# Altium footprint library Control_Board_Library.PcbLib: 61 footprints (part 3 of 4)
Each footprint in its own frame and in the unit in brackets; x right, y up, seen from the top. Pads: shape width x height; smd on the part's side, far side on the other; paste and mask are expansions set on the pad; w line width, h text height; cw(c..) or ccw(c..) is an arc to the next point about the centre after c.
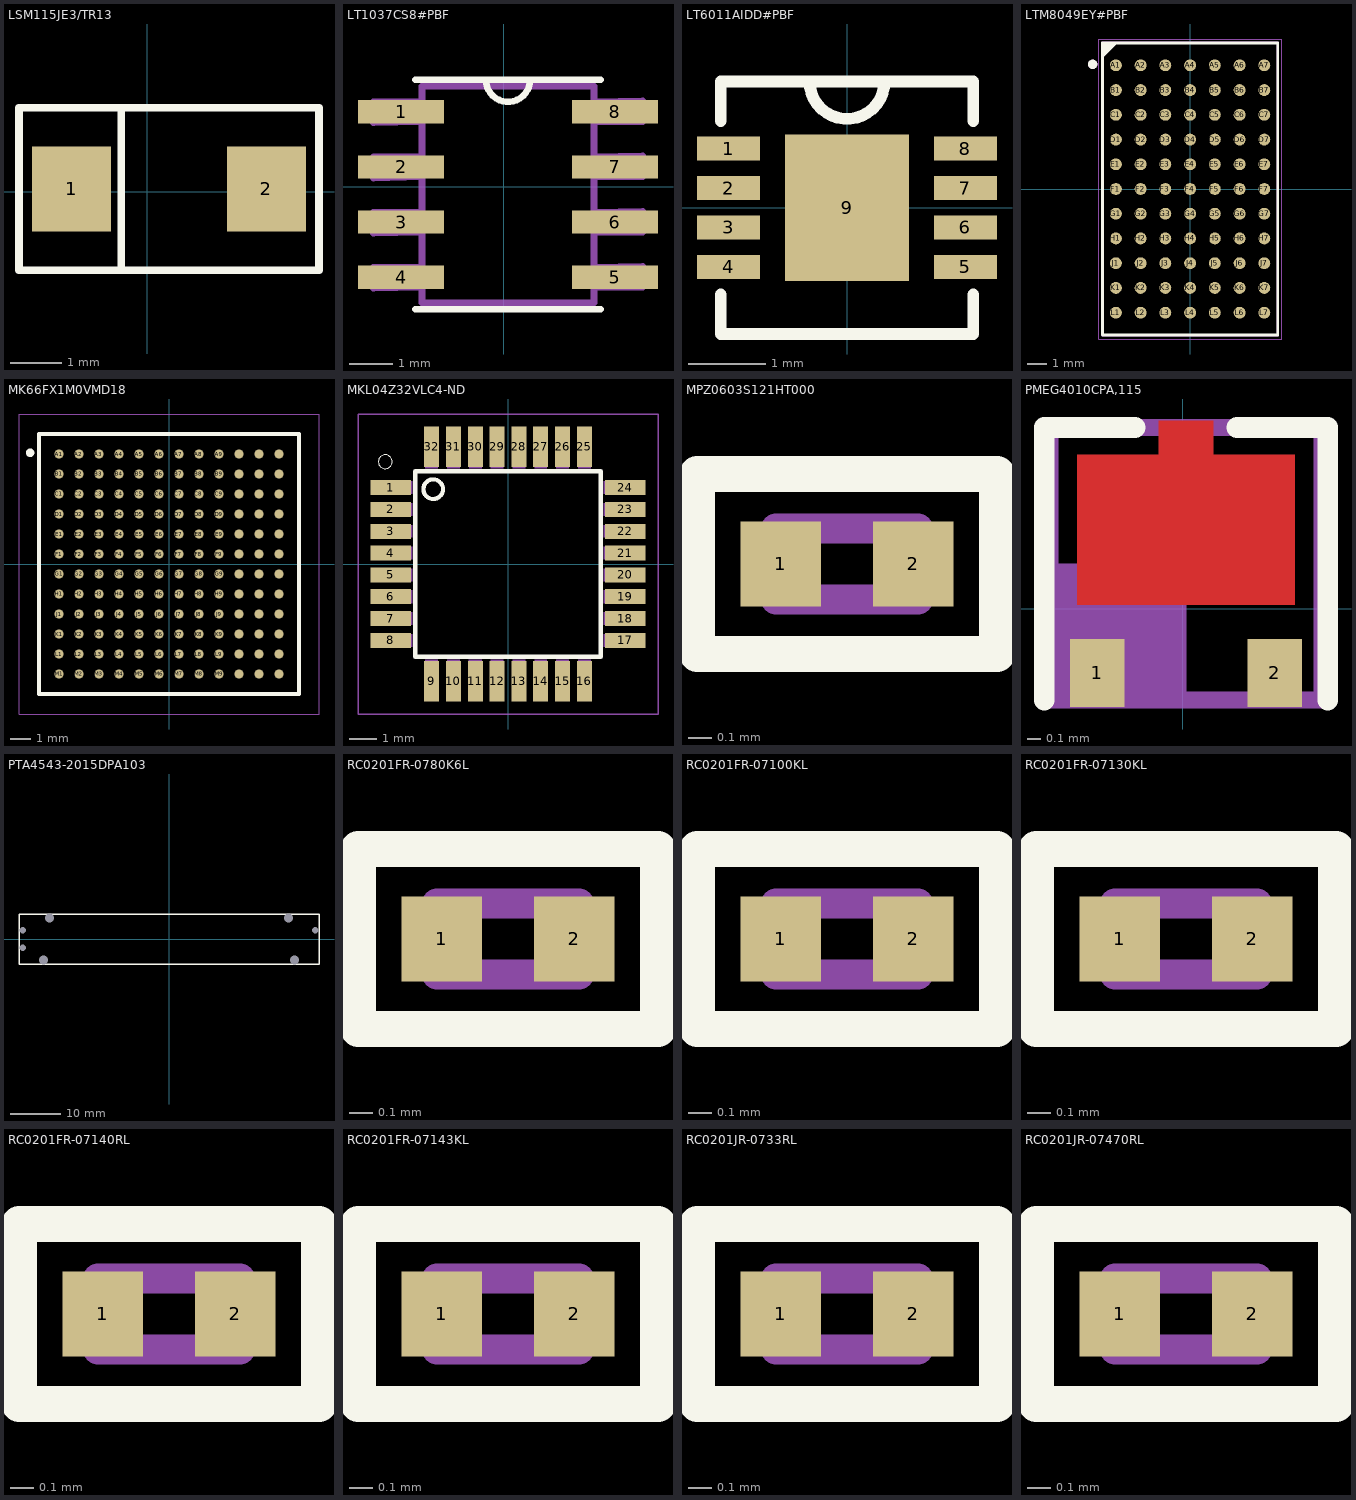
[diagram p2: the footprints below, top view; thin cyan lines are the x and y axes]

## LSM115JE3/TR13 [mm]
pads (2):
  rect 1.555x1.67 smd: 1(-1.483,0.051) 2(2.347,0.051)
Top Overlay:
  lines w0.152: -0.508,-1.549 -0.507,1.626 ; -2.518,-1.549 -2.518,1.651 3.382,1.651 3.382,-1.549 -2.518,-1.549
3D body "DO-214AC.STEP": height 2.36, standoff 0.08, extent -2.286,-1.346 3.201,1.448

## LT1037CS8#PBF [mil]
pads (8):
  rect 78x21 smd: 1(-93,68) 2(-93,18) 3(-93,-32) 4(-93,-82) 5(101,-82) 6(101,-32) 7(101,18) 8(101,68)
Top Overlay:
  lines w6: -80,-111 88,-111 ; -80,97 88,97 ; -16,97 ccw(c4,97) 24,97
Mechanical 1:
  lines w6: -118,-92 -74,-91 -74,-73 -118,-73 -118,-92 ; -118,-42 -74,-41 -74,-23 -118,-23 -118,-42 ; -118,8 -74,9 -74,27 -118,27 -118,8 ; -118,58 -74,59 -74,77 -118,77 -118,58 ; -74,-105 -74,91 -8,91 82,91 82,-105 -74,-105 ; 82,-91 126,-91 126,-72 82,-73 82,-91 ; 82,-41 126,-41 126,-22 82,-23 82,-41 ; 82,9 126,9 126,28 82,27 82,9 ; 82,59 126,59 126,78 82,77 82,59
3D body "8-SOIC.STEP": height 68.9, standoff 0, extent -118.1,-101.46 118.12,91.46

## LT6011AIDD#PBF [mil]
pads (9):
  rect 32x12 smd: 1(-60,30) 2(-60,10) 3(-60,-10) 4(-60,-30) 5(60,-30) 6(60,-10) 7(60,10) 8(60,30)
  rect 63x74 smd: 9(0,0)
Top Overlay:
  lines w6: -64,-44 -64,-64 64,-64 64,-44 ; -64,44 -64,64 -12,64 12,64 64,64 64,44 ; -19,64 ccw(c0,64) 19,64
Mechanical 1:
  lines w2: -64,-64 64,-64 ; -64,64 -12,64 12,64 64,64
3D body "8-LFCSP-WD.STEP": height 31.5, standoff 0, extent -59.45,-59.11 59.45,59

## LTM8049EY#PBF [mm]
pads (77):
  round 0.61 smd: A1(-3.81,6.35) A2(-2.54,6.35) A3(-1.27,6.35) A4(0,6.35) A5(1.27,6.35) A6(2.54,6.35) A7(3.81,6.35) B1(-3.81,5.08) B2(-2.54,5.08) B3(-1.27,5.08) B4(0,5.08) B5(1.27,5.08) B6(2.54,5.08) B7(3.81,5.08) C1(-3.81,3.81) C2(-2.54,3.81) C3(-1.27,3.81) C4(0,3.81) C5(1.27,3.81) C6(2.54,3.81) C7(3.81,3.81) D1(-3.81,2.54) D2(-2.54,2.54) D3(-1.27,2.54) D4(0,2.54) D5(1.27,2.54) D6(2.54,2.54) D7(3.81,2.54) E1(-3.81,1.27) E2(-2.54,1.27) E3(-1.27,1.27) E4(0,1.27) E5(1.27,1.27) E6(2.54,1.27) E7(3.81,1.27) F1(-3.81,0) F2(-2.54,0) F3(-1.27,0) F4(0,0) F5(1.27,0) F6(2.54,0) F7(3.81,0) G1(-3.81,-1.27) G2(-2.54,-1.27) G3(-1.27,-1.27) G4(0,-1.27) G5(1.27,-1.27) G6(2.54,-1.27) G7(3.81,-1.27) H1(-3.81,-2.54) H2(-2.54,-2.54) H3(-1.27,-2.54) H4(0,-2.54) H5(1.27,-2.54) H6(2.54,-2.54) H7(3.81,-2.54) J1(-3.81,-3.81) J2(-2.54,-3.81) J3(-1.27,-3.81) J4(0,-3.81) J5(1.27,-3.81) J6(2.54,-3.81) J7(3.81,-3.81) K1(-3.81,-5.08) K2(-2.54,-5.08) K3(-1.27,-5.08) K4(0,-5.08) K5(1.27,-5.08) K6(2.54,-5.08) K7(3.81,-5.08) L1(-3.81,-6.35) L2(-2.54,-6.35) L3(-1.27,-6.35) L4(0,-6.35) L5(1.27,-6.35) L6(2.54,-6.35) L7(3.81,-6.35)
Top Overlay:
  circle w0.24: c-5,6.4 r0.12
  lines w0.127: -4.5,6.9 -3.9,7.5 ; -4.5,6.9 -4.5,7 ; -4.5,6.9 -4.5,6.8 -3.8,7.5 -3.9,7.5 ; -4.5,7 -4,7.5 ; -4.5,7 -4.5,7.1 ; -4.5,7.1 -4.1,7.5 ; -4.5,7.1 -4.5,7.2 ; -4.5,7.2 -4.2,7.5 ; -4.5,7.2 -4.5,7.3 ; -4.5,7.3 -4.3,7.5 ; -4.5,7.3 -4.5,7.4 ; -4.5,7.4 -4.4,7.5 ; -4.5,7.4 -4.5,7.5 -4.4,7.5 ; -4.4,7.5 -4.3,7.5 ; -4.3,7.5 -4.2,7.5 ; -4.2,7.5 -4.1,7.5 ; -4.1,7.5 -4,7.5 ; -4,7.5 -3.9,7.5
  lines w0.152: -4.5,6.8 -4.5,-7.5 4.5,-7.5 4.5,7.5 -3.8,7.5
Mechanical 1:
  circle w0.24: c-5,6.4 r0.12
  lines w0.127: -4.5,-7.5 -4.5,7.5 4.5,7.5 4.5,-7.5 -4.5,-7.5
Mechanical 4:
  lines w0.05: -4.7,-7.7 -4.7,7.7 4.7,7.7 4.7,-7.7 -4.7,-7.7
3D body "LTM 8049.STEP": height 2.42, standoff 0, extent -4.428,-7.438 4.572,7.562

## MK66FX1M0VMD18 [mm]
pads (144):
  round 0.45 smd: A1(-5.5,5.5) A2(-4.5,5.5) A3(-3.5,5.5) A4(-2.5,5.5) A5(-1.5,5.5) A6(-0.5,5.5) A7(0.5,5.5) A8(1.5,5.5) A9(2.5,5.5) A10(3.5,5.5) A11(4.5,5.5) A12(5.5,5.5) B1(-5.5,4.5) B2(-4.5,4.5) B3(-3.5,4.5) B4(-2.5,4.5) B5(-1.5,4.5) B6(-0.5,4.5) B7(0.5,4.5) B8(1.5,4.5) B9(2.5,4.5) B10(3.5,4.5) B11(4.5,4.5) B12(5.5,4.5) C1(-5.5,3.5) C2(-4.5,3.5) C3(-3.5,3.5) C4(-2.5,3.5) C5(-1.5,3.5) C6(-0.5,3.5) C7(0.5,3.5) C8(1.5,3.5) C9(2.5,3.5) C10(3.5,3.5) C11(4.5,3.5) C12(5.5,3.5) D1(-5.5,2.5) D2(-4.5,2.5) D3(-3.5,2.5) D4(-2.5,2.5) D5(-1.5,2.5) D6(-0.5,2.5) D7(0.5,2.5) D8(1.5,2.5) D9(2.5,2.5) D10(3.5,2.5) D11(4.5,2.5) D12(5.5,2.5) E1(-5.5,1.5) E2(-4.5,1.5) E3(-3.5,1.5) E4(-2.5,1.5) E5(-1.5,1.5) E6(-0.5,1.5) E7(0.5,1.5) E8(1.5,1.5) E9(2.5,1.5) E10(3.5,1.5) E11(4.5,1.5) E12(5.5,1.5) F1(-5.5,0.5) F2(-4.5,0.5) F3(-3.5,0.5) F4(-2.5,0.5) F5(-1.5,0.5) F6(-0.5,0.5) F7(0.5,0.5) F8(1.5,0.5) F9(2.5,0.5) F10(3.5,0.5) F11(4.5,0.5) F12(5.5,0.5) G1(-5.5,-0.5) G2(-4.5,-0.5) G3(-3.5,-0.5) G4(-2.5,-0.5) G5(-1.5,-0.5) G6(-0.5,-0.5) G7(0.5,-0.5) G8(1.5,-0.5) G9(2.5,-0.5) G10(3.5,-0.5) G11(4.5,-0.5) G12(5.5,-0.5) H1(-5.5,-1.5) H2(-4.5,-1.5) H3(-3.5,-1.5) H4(-2.5,-1.5) H5(-1.5,-1.5) H6(-0.5,-1.5) H7(0.5,-1.5) H8(1.5,-1.5) H9(2.5,-1.5) H10(3.5,-1.5) H11(4.5,-1.5) H12(5.5,-1.5) J1(-5.5,-2.5) J2(-4.5,-2.5) J3(-3.5,-2.5) J4(-2.5,-2.5) J5(-1.5,-2.5) J6(-0.5,-2.5) J7(0.5,-2.5) J8(1.5,-2.5) J9(2.5,-2.5) J10(3.5,-2.5) J11(4.5,-2.5) J12(5.5,-2.5) K1(-5.5,-3.5) K2(-4.5,-3.5) K3(-3.5,-3.5) K4(-2.5,-3.5) K5(-1.5,-3.5) K6(-0.5,-3.5) K7(0.5,-3.5) K8(1.5,-3.5) K9(2.5,-3.5) K10(3.5,-3.5) K11(4.5,-3.5) K12(5.5,-3.5) L1(-5.5,-4.5) L2(-4.5,-4.5) L3(-3.5,-4.5) L4(-2.5,-4.5) L5(-1.5,-4.5) L6(-0.5,-4.5) L7(0.5,-4.5) L8(1.5,-4.5) L9(2.5,-4.5) L10(3.5,-4.5) L11(4.5,-4.5) L12(5.5,-4.5) M1(-5.5,-5.5) M2(-4.5,-5.5) M3(-3.5,-5.5) M4(-2.5,-5.5) M5(-1.5,-5.5) M6(-0.5,-5.5) M7(0.5,-5.5) M8(1.5,-5.5) M9(2.5,-5.5) M10(3.5,-5.5) M11(4.5,-5.5) M12(5.5,-5.5)
Top Overlay:
  circle w0.2: c-6.945,5.561 r0.11
  lines w0.2: -6.5,-6.5 -6.5,6.5 6.5,6.5 6.5,-6.5 -6.5,-6.5
Mechanical 4:
  lines w0.05: -7.5,-7.5 7.5,-7.5 7.5,7.5 -7.5,7.5 -7.5,-7.5
3D body "144-LBGA.STEP": height 1.1, standoff -0.25, extent -6.474,-6.474 6.526,6.526

## MKL04Z32VLC4-ND [mm]
pads (32):
  rect 1.5x0.55 smd: 1(-4.3,2.8) 2(-4.3,2) 3(-4.3,1.2) 4(-4.3,0.4) 5(-4.3,-0.4) 6(-4.3,-1.2) 7(-4.3,-2) 8(-4.3,-2.8) 17(4.3,-2.8) 18(4.3,-2) 19(4.3,-1.2) 20(4.3,-0.4) 21(4.3,0.4) 22(4.3,1.2) 23(4.3,2) 24(4.3,2.8)
  rect 0.55x1.5 smd: 9(-2.8,-4.3) 10(-2,-4.3) 11(-1.2,-4.3) 12(-0.4,-4.3) 13(0.4,-4.3) 14(1.2,-4.3) 15(2,-4.3) 16(2.8,-4.3) 25(2.8,4.3) 26(2,4.3) 27(1.2,4.3) 28(0.4,4.3) 29(-0.4,4.3) 30(-1.2,4.3) 31(-2,4.3) 32(-2.8,4.3)
Top Overlay:
  circle w0: c-4.5,3.75 r0.254
  circle w0.152: c-2.743,2.743 r0.359
  lines w0.152: -3.4,-3.4 -3.4,3.4 3.4,3.4 3.4,-3.4 -3.4,-3.4
Mechanical 1:
  region: -3.034,4.497 -2.571,4.497 -2.571,3.513 -3.034,3.513
  region: -2.233,4.497 -1.771,4.497 -1.771,3.513 -2.233,3.513
  region: -1.43,4.497 -0.971,4.497 -0.971,3.509 -1.43,3.509
  region: -0.631,4.497 -0.171,4.497 -0.171,3.518 -0.631,3.518
  region: 0.171,4.497 0.629,4.497 0.629,3.508 0.171,3.508
  region: 0.974,4.497 1.429,4.497 1.429,3.515 0.974,3.515
  region: 1.774,4.497 2.229,4.497 2.229,3.512 1.774,3.512
  region: 2.579,4.497 3.029,4.497 3.029,3.517 2.579,3.517
  region: 3.516,3.029 4.497,3.029 4.497,2.579 3.516,2.579
  region: 3.513,2.229 4.497,2.229 4.497,1.775 3.513,1.775
  region: 3.514,1.429 4.497,1.429 4.497,0.974 3.514,0.974
  region: 3.513,0.629 4.497,0.629 4.497,0.172 3.513,0.172
  region: 3.516,-0.171 4.497,-0.171 4.497,-0.63 3.516,-0.63
  region: 3.515,-0.971 4.497,-0.971 4.497,-1.432 3.515,-1.432
  region: 3.515,-1.771 4.497,-1.771 4.497,-2.235 3.515,-2.235
  region: 3.509,-2.571 4.497,-2.571 4.497,-3.031 3.509,-3.031
  region: 2.58,-3.506 3.029,-3.506 3.029,-4.511 2.58,-4.511
  region: 1.777,-3.506 2.229,-3.506 2.229,-4.51 1.777,-4.51
  region: 0.973,-3.506 1.429,-3.506 1.429,-4.505 0.973,-4.505
  region: 0.172,-3.506 0.629,-3.506 0.629,-4.505 0.172,-4.505
  region: -0.63,-3.506 -0.171,-3.506 -0.171,-4.505 -0.63,-4.505
  region: -1.432,-3.506 -0.971,-3.506 -0.971,-4.508 -1.432,-4.508
  region: -2.231,-3.506 -1.771,-3.506 -1.771,-4.502 -2.231,-4.502
  region: -3.038,-3.506 -2.571,-3.506 -2.571,-4.511 -3.038,-4.511
  region: -4.509,-2.571 -3.506,-2.571 -3.506,-3.037 -4.509,-3.037
  region: -4.503,-1.771 -3.506,-1.771 -3.506,-2.232 -4.503,-2.232
  region: -4.509,-0.971 -3.506,-0.971 -3.506,-1.432 -4.509,-1.432
  region: -4.506,-0.171 -3.506,-0.171 -3.506,-0.63 -4.506,-0.63
  region: -4.505,0.629 -3.506,0.629 -3.506,0.172 -4.505,0.172
  region: -4.508,1.429 -3.506,1.429 -3.506,0.974 -4.508,0.974
  region: -4.51,2.229 -3.506,2.229 -3.506,1.777 -4.51,1.777
  region: -4.499,3.029 -3.506,3.029 -3.506,2.573 -4.499,2.573
Mechanical 4:
  lines w0.05: -5.5,-5.5 -5.5,5.5 5.5,5.5 5.5,-5.5 -5.5,-5.5
3D body "MKL04.step": height 1.1, standoff 0, extent -4.509,-4.534 4.509,4.483

## MPZ0603S121HT000 [mm]
pads (2):
  rect 0.34x0.36 smd: 1(7.975,14.351) 2(8.535,14.351)
Top Overlay:
  lines w0.152: 7.62,13.97 8.89,13.97 8.89,14.732 7.62,14.732 7.62,13.97
Mechanical 1:
  region: 7.954,14.451 8.055,14.451 8.055,14.251 7.954,14.251
  region: 8.456,14.451 8.555,14.451 8.555,14.251 8.456,14.251
  lines w0.127: 7.955,14.201 8.555,14.201 8.555,14.501 7.955,14.501 7.955,14.201
3D body "Capacitor_0201.STEP": height 0.3, standoff 0, extent 7.955,14.201 8.555,14.501

## PMEG4010CPA,115 [mm]
pads (3):
  rect 0.4x0.5 smd: 1(-0.625,-0.47) 2(0.675,-0.47)
  rect 0x0 all layers, no hole: 3(0.025,1.205)
Top Layer:
  region: 0.825,0.03 -0.775,0.03 -0.775,1.13 -0.175,1.13 -0.175,1.38 0.225,1.38 0.225,1.13 0.825,1.13
Top Overlay:
  lines w0.152: -1.016,-0.67 -1.016,1.33 -0.35,1.33 ; 0.4,1.33 1.067,1.33 1.067,-0.67
Top Paste:
  region: 0.825,0.03 -0.775,0.03 -0.775,1.13 -0.175,1.13 -0.175,1.38 0.225,1.38 0.225,1.13 0.825,1.13
Top Solder:
  region: -0.375,-0.772 -0.876,-0.772 -0.876,-0.17 -0.375,-0.17
  region: 0.925,-0.772 0.426,-0.772 0.426,-0.17 0.925,-0.17
  region: 0.875,-0.02 -0.825,-0.02 -0.825,1.18 -0.225,1.18 -0.225,1.43 0.275,1.43 0.275,1.18 0.875,1.18
Mechanical 1:
  region: -0.976,0.33 0.025,0.33 0.025,-0.671 -0.976,-0.671
  lines w0.125: -0.975,-0.67 1.025,-0.67 1.025,1.23 1.025,1.33 -0.975,1.33 -0.975,-0.67
3D body: height 0.65, standoff 0, extent -0.975,-0.67 1.025,1.33

## PTA4543-2015DPA103 [mm]
pads (7):
  round 0.5 hole 1.3: 1(-29.25,1.75) 2(-29.25,-1.75) 3(29.25,1.75)
  round 0.5 hole 1.8: ""(-25.1,-4.2) ""(-23.9,4.2) ""(23.9,4.2) ""(25.1,-4.2)
Top Overlay:
  lines w0.254: -30,-5 30,-5 30,5 -30,5 -30,-5
3D body "69120.stp": height 21.7, standoff -3.3, extent -30,-4.65 30,4.65

## RC0201FR-0780K6L [mm]
pads (2):
  rect 0.34x0.36 smd: 1(7.975,14.351) 2(8.535,14.351)
Top Overlay:
  lines w0.152: 7.62,13.97 7.62,14.732 8.89,14.732 8.89,13.97 7.62,13.97
Mechanical 1:
  region: 8.456,14.451 8.555,14.451 8.555,14.251 8.456,14.251
  region: 7.954,14.451 8.055,14.451 8.055,14.251 7.954,14.251
  lines w0.127: 7.955,14.201 7.955,14.501 8.555,14.501 8.555,14.201 7.955,14.201
3D body "Resistor_0201.STEP": height 0.34, standoff 0, extent 7.915,14.186 8.595,14.516

## RC0201FR-07100KL [mm]
pads (2):
  rect 0.34x0.36 smd: 1(7.975,14.351) 2(8.535,14.351)
Top Overlay:
  lines w0.152: 7.62,13.97 8.89,13.97 8.89,14.732 7.62,14.732 7.62,13.97
Mechanical 1:
  region: 7.954,14.451 8.055,14.451 8.055,14.251 7.954,14.251
  region: 8.456,14.451 8.555,14.451 8.555,14.251 8.456,14.251
  lines w0.127: 7.955,14.201 8.555,14.201 8.555,14.501 7.955,14.501 7.955,14.201
3D body "Resistor_0201.STEP": height 0.34, standoff 0, extent 7.915,14.186 8.595,14.516

## RC0201FR-07130KL [mm]
pads (2):
  rect 0.34x0.36 smd: 1(7.975,14.351) 2(8.535,14.351)
Top Overlay:
  lines w0.152: 7.62,13.97 7.62,14.732 8.89,14.732 8.89,13.97 7.62,13.97
Mechanical 1:
  region: 8.456,14.451 8.555,14.451 8.555,14.251 8.456,14.251
  region: 7.954,14.451 8.055,14.451 8.055,14.251 7.954,14.251
  lines w0.127: 7.955,14.201 7.955,14.501 8.555,14.501 8.555,14.201 7.955,14.201
3D body "Resistor_0201.STEP": height 0.34, standoff 0, extent 7.915,14.186 8.595,14.516

## RC0201FR-07140RL [mm]
pads (2):
  rect 0.34x0.36 smd: 1(7.975,14.351) 2(8.535,14.351)
Top Overlay:
  lines w0.152: 7.62,13.97 7.62,14.732 8.89,14.732 8.89,13.97 7.62,13.97
Mechanical 1:
  region: 8.456,14.451 8.555,14.451 8.555,14.251 8.456,14.251
  region: 7.954,14.451 8.055,14.451 8.055,14.251 7.954,14.251
  lines w0.127: 7.955,14.201 7.955,14.501 8.555,14.501 8.555,14.201 7.955,14.201
3D body "Resistor_0201.STEP": height 0.34, standoff 0, extent 7.915,14.186 8.595,14.516

## RC0201FR-07143KL [mm]
pads (2):
  rect 0.34x0.36 smd: 1(7.975,14.351) 2(8.535,14.351)
Top Overlay:
  lines w0.152: 7.62,13.97 7.62,14.732 8.89,14.732 8.89,13.97 7.62,13.97
Mechanical 1:
  region: 8.456,14.451 8.555,14.451 8.555,14.251 8.456,14.251
  region: 7.954,14.451 8.055,14.451 8.055,14.251 7.954,14.251
  lines w0.127: 7.955,14.201 7.955,14.501 8.555,14.501 8.555,14.201 7.955,14.201
3D body "Resistor_0201.STEP": height 0.34, standoff 0, extent 7.915,14.186 8.595,14.516

## RC0201JR-0733RL [mm]
pads (2):
  rect 0.34x0.36 smd: 1(7.975,14.351) 2(8.535,14.351)
Top Overlay:
  lines w0.152: 7.62,13.97 8.89,13.97 8.89,14.732 7.62,14.732 7.62,13.97
Mechanical 1:
  region: 7.954,14.451 8.055,14.451 8.055,14.251 7.954,14.251
  region: 8.456,14.451 8.555,14.451 8.555,14.251 8.456,14.251
  lines w0.127: 7.955,14.201 8.555,14.201 8.555,14.501 7.955,14.501 7.955,14.201
3D body "Resistor_0201.STEP": height 0.34, standoff 0, extent 7.915,14.186 8.595,14.516

## RC0201JR-07470RL [mm]
pads (2):
  rect 0.34x0.36 smd: 1(7.975,14.351) 2(8.535,14.351)
Top Overlay:
  lines w0.152: 7.62,13.97 8.89,13.97 8.89,14.732 7.62,14.732 7.62,13.97
Mechanical 1:
  region: 7.954,14.451 8.055,14.451 8.055,14.251 7.954,14.251
  region: 8.456,14.451 8.555,14.451 8.555,14.251 8.456,14.251
  lines w0.127: 7.955,14.201 8.555,14.201 8.555,14.501 7.955,14.501 7.955,14.201
3D body "Resistor_0201.STEP": height 0.34, standoff 0, extent 7.915,14.186 8.595,14.516